# Altium schematic symbol library CR3032_Lib.SchLib: 2 symbols
Pins are listed as number, name and electrical type; pins without a type are passive.

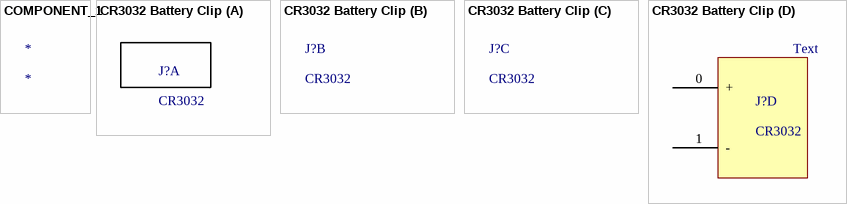
[diagram p0: symbols COMPONENT_1 to CR3032 Battery Clip]

## COMPONENT_1
designator *

## CR3032 Battery Clip
designator J?, comment CR3032
part D pins: 0 +, 1 -
part D text: Text